# EAGLE library part 5584ИЕ7 (library std-logic-5584series)
АЕЯР.431200.209 ТУ 5584ИЕ7У, 5584ИЕ7АУ - Четырехразрядный двоичный реверсивный счетчик.
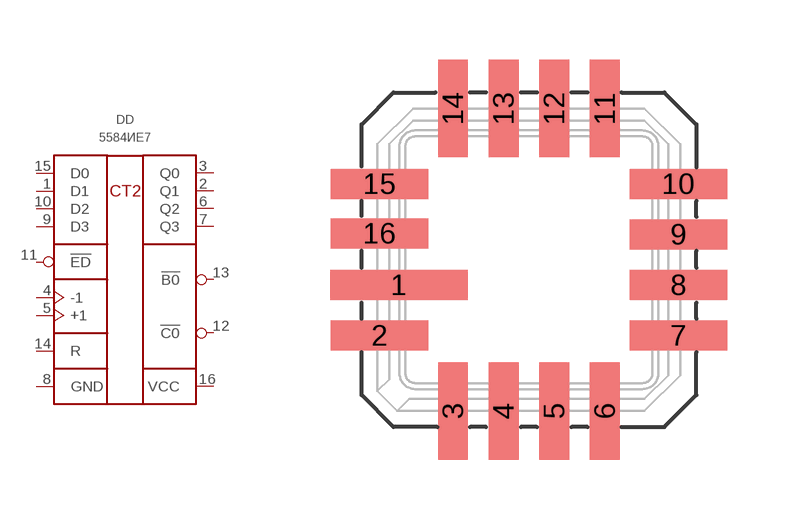
[diagram p6: symbol with the pads of 5119.16-А; footprint 5119.16-А]

Designator prefix DD

## 5584ИЕ7У  [5119.16-А]
1  D1  in
2  Q1  out
3  Q0  out
4  -1  in
5  +1  in
6  Q2  out
7  Q3  out
8  GND  pwr
9  D3  in
10  D2  in
11  !ED  in
12  !C0  out
13  !B0  out
14  R  in
15  D0  in
16  VCC  pwr

## 5584ИЕ7АУ  [5119.16-А]
Pads as for 5119.16-А

## Footprint 5119.16-А (pad centres in mm)
smd 3.45 x 0.75: 1 -3.26,-0.635
smd 2.45 x 0.75: 2 -3.75,-1.905; 7 3.75,-1.905; 8 3.75,-0.635; 9 3.75,0.635; 10 3.75,1.905; 15 -3.75,1.905; 16 -3.75,0.66
smd 0.75 x 2.45: 3 -1.905,-3.8; 4 -0.635,-3.8; 5 0.635,-3.8; 6 1.905,-3.8; 11 1.905,3.8; 12 0.635,3.8; 13 -0.635,3.8; 14 -1.905,3.8